# EAGLE library part 568-1690-1 (library KylePile)
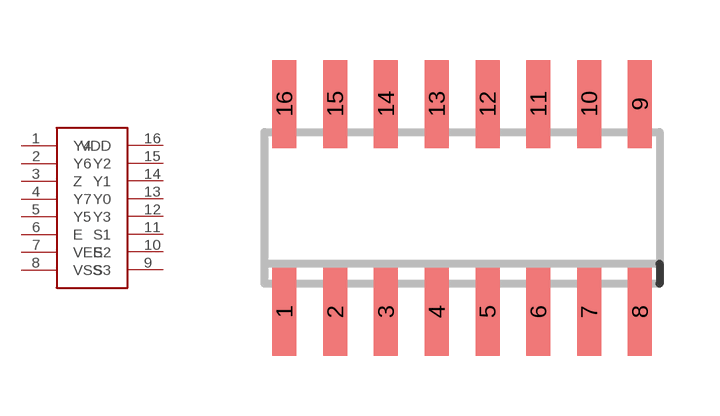
[diagram p10: symbol with the pads of SOIC-16; footprint SOIC-16]

Designator prefix -

## 568-1690-1  [SOIC-16]
1  Y4
2  Y6
3  Z
4  Y7
5  Y5
6  E
7  VEE
8  VSS
9  S3
10  S2
11  S1
12  Y3
13  Y0
14  Y1
15  Y2
16  VDD

## Footprint SOIC-16 (pad centres in mm)
smd 0.6 x 2.2: 1 -4.445,-2.6; 2 -3.175,-2.6; 3 -1.905,-2.6; 4 -0.635,-2.6; 5 0.635,-2.6; 6 1.905,-2.6; 7 3.175,-2.6; 8 4.445,-2.6; 9 4.445,2.6; 10 3.175,2.6; 11 1.905,2.6; 12 0.635,2.6; 13 -0.635,2.6; 14 -1.905,2.6; 15 -3.175,2.6; 16 -4.445,2.6